# EAGLE library part NHD-C0220BIZ_2X20CHARS (library df4iah_lcd)
NHD-C0220BIZ 2 x 20 character dot matrix LCD with I2C
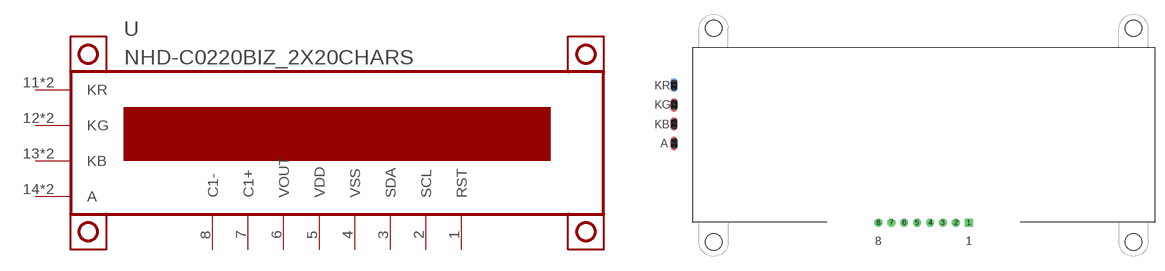
[diagram p0: symbol with the pads of NHD-C0220BIZ_2X20CHARS; footprint NHD-C0220BIZ_2X20CHARS]

Designator prefix U

## NHD-C0220BIZ_2X20CHARS  [NHD-C0220BIZ_2X20CHARS]
1  RST  in
2  SCL  in
3  SDA
4  VSS  pwr
5  VDD  pwr
6  VOUT  pas
7  C1+  pas
8  C1-  pas
11  KR  pas
12  KG  pas
13  KB  pas
14  A  pas
21  KR  pas
22  KG  pas
23  KB  pas
24  A  pas

## Footprint NHD-C0220BIZ_2X20CHARS (pad centres in mm)
NHD-C0220BIZ 2 x 20 character dot matrix LCD with I2C
drill 0.7 square: 1 7,-14
drill 0.7 octagon: 2 5,-14; 3 3,-14; 4 1,-14; 5 -1,-14; 6 -3,-14; 7 -5,-14; 8 -7,-14
smd 1.2 x 2.2: 11 -38.608,7.264; 12 -38.608,4.216; 13 -38.608,1.295; 14 -38.608,-1.753
smd 1.2 x 2.2 bottom: 21 -38.608,7.264; 22 -38.608,4.216; 23 -38.608,1.295; 24 -38.608,-1.753
hole 2.5 at -32.5,16.1
hole 2.5 at 32.5,16.1
hole 2.5 at 32.5,-17
hole 2.5 at -32.5,-17